# EAGLE library part FF34 (library FLYFISH)
FF34, USB I/O chip FLYFISH TECHNOLOGIES http://www.flyfish-tech.com/FF34
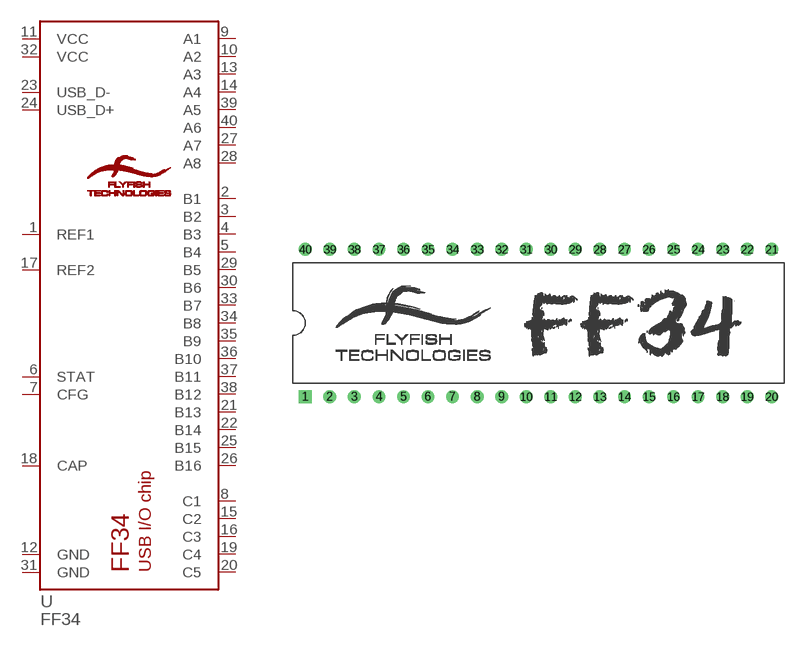
[diagram p1: symbol with the pads of FF34/P; footprint FF34/P]

Designator prefix U

## FF34/P  [FF34/P]
1  REF1  in
2  B1
3  B2
4  B3
5  B4
6  STAT  out
7  CFG  in
8  C1
9  A1
10  A2
11  VCC  pwr
12  GND  pwr
13  A3
14  A4
15  C2
16  C3
17  REF2  in
18  CAP  pwr
19  C4
20  C5
21  B13
22  B14
23  USB_D-
24  USB_D+
25  B15
26  B16
27  A7
28  A8
29  B5
30  B6
31  GND  pwr
32  VCC  pwr
33  B7
34  B8
35  B9
36  B10
37  B11
38  B12
39  A5
40  A6

## Footprint FF34/P (pad centres in mm)
drill 0.813 square: 1 -22.86,-7.62
drill 0.813: 2 -20.32,-7.62; 3 -17.78,-7.62; 4 -15.24,-7.62; 5 -12.7,-7.62; 6 -10.16,-7.62; 7 -7.62,-7.62; 8 -5.08,-7.62; 9 -2.54,-7.62; 10 0,-7.62; 11 2.54,-7.62; 12 5.08,-7.62; 13 7.62,-7.62; 14 10.16,-7.62; 15 12.7,-7.62; 16 15.24,-7.62; 17 17.78,-7.62; 18 20.32,-7.62; 19 22.86,-7.62; 20 25.4,-7.62; 21 25.4,7.62; 22 22.86,7.62; 23 20.32,7.62; 24 17.78,7.62; 25 15.24,7.62; 26 12.7,7.62; 27 10.16,7.62; 28 7.62,7.62; 29 5.08,7.62; 30 2.54,7.62; 31 0,7.62; 32 -2.54,7.62; 33 -5.08,7.62; 34 -7.62,7.62; 35 -10.16,7.62; 36 -12.7,7.62; 37 -15.24,7.62; 38 -17.78,7.62; 39 -20.32,7.62; 40 -22.86,7.62